# Altium footprint library DC DC MOTNSUN.PcbLib: 1 footprints
Each footprint in its own frame and in the unit in brackets; x right, y up, seen from the top. Pads: shape width x height; smd on the part's side, far side on the other; paste and mask are expansions set on the pad; w line width, h text height; cw(c..) or ccw(c..) is an arc to the next point about the centre after c.
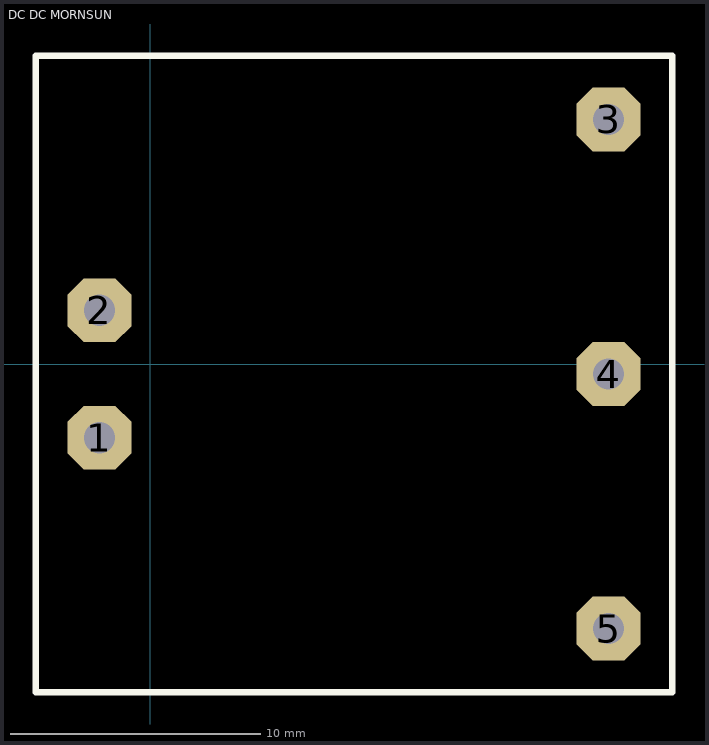
[diagram p0: the footprint, top view; thin cyan lines are the x and y axes]

## DC DC MORNSUN [mil]
pads (5):
  oct 100x100 hole 49.21: 1(-80,-115) 2(-80,85) 3(720,385) 4(720,-15) 5(720,-415)
Top Overlay:
  lines w10: -180,-515 820,-515 820,485 -180,485 -180,-515